# Altium footprint library C8T6核心板和lv8729.PcbLib: 48 footprints (part 2 of 3)
Each footprint in its own frame and in the unit in brackets; x right, y up, seen from the top. Pads: shape width x height; smd on the part's side, far side on the other; paste and mask are expansions set on the pad; w line width, h text height; cw(c..) or ccw(c..) is an arc to the next point about the centre after c.
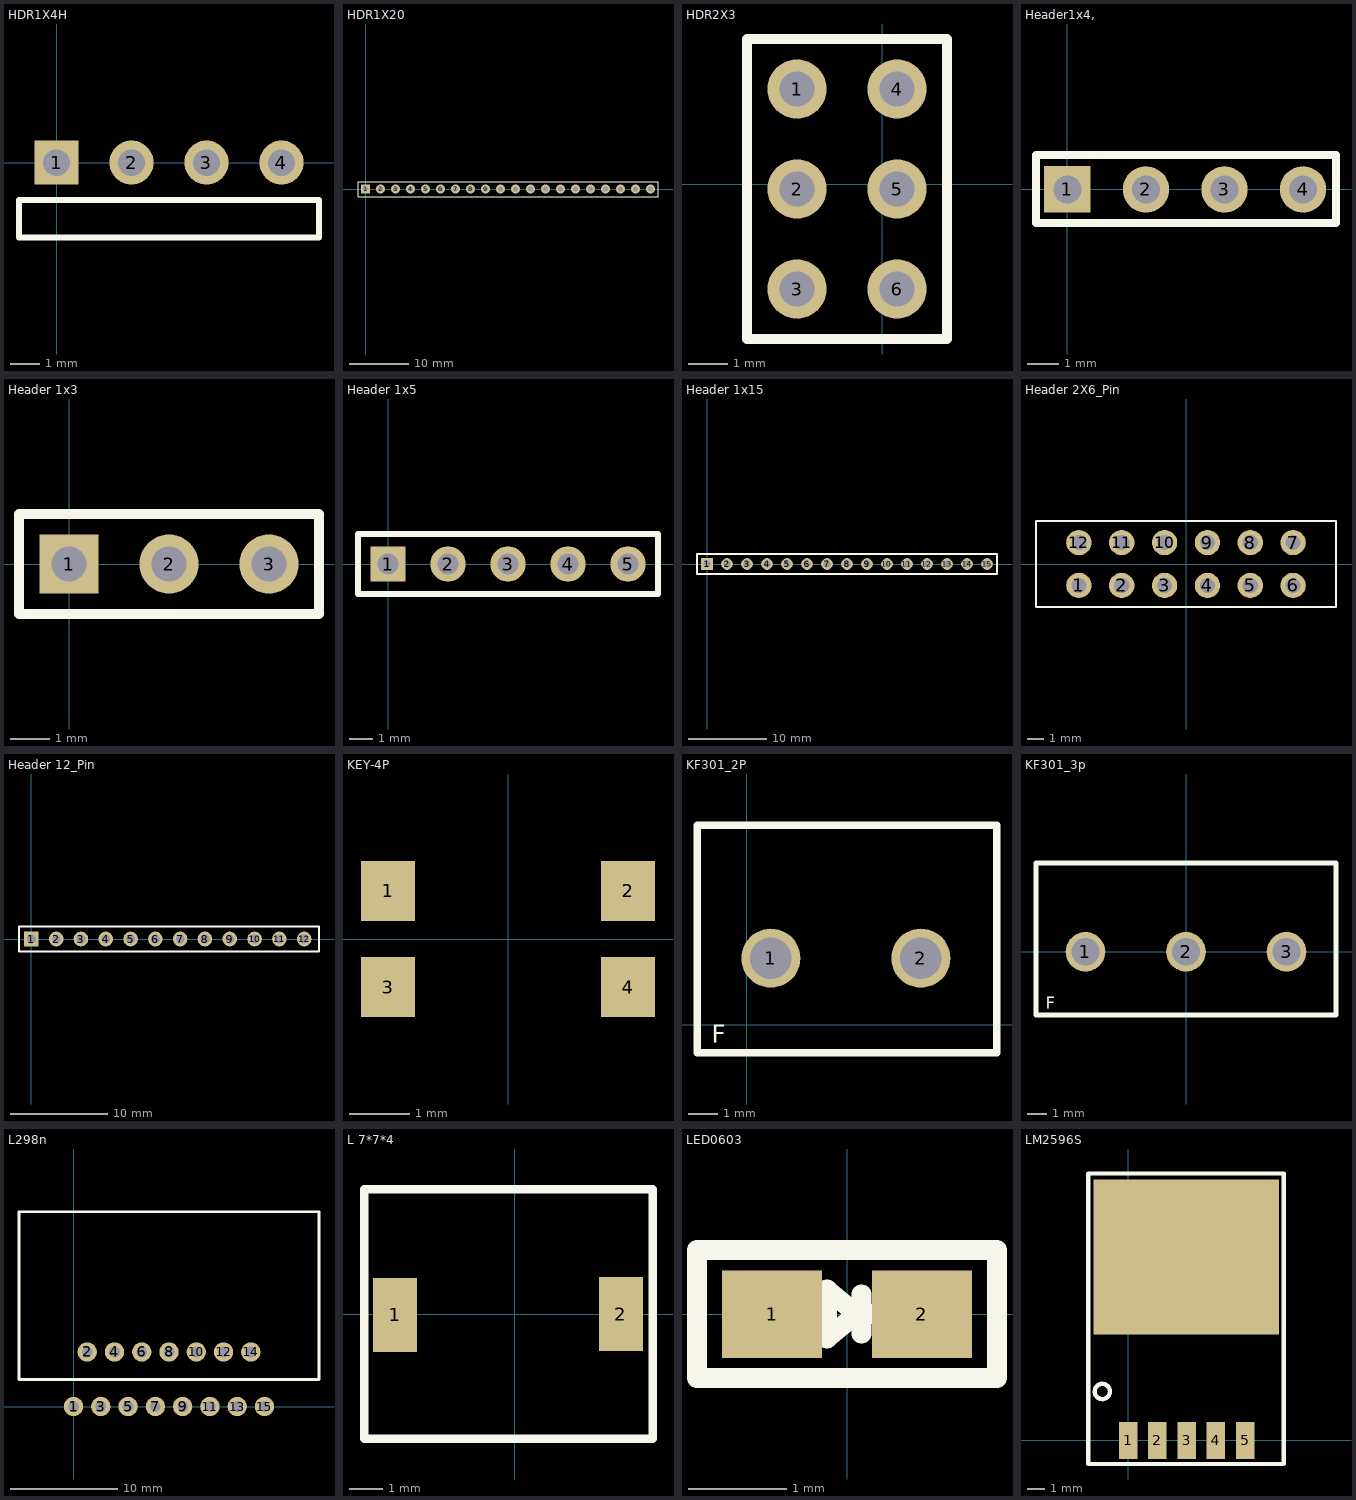
[diagram p1: the footprints below, top view; thin cyan lines are the x and y axes]

## HDR1X4H [mm] "Connector; Header; 4 Position; Right Angle"
pads (4):
  rect 1.5x1.5 hole 0.9: 1(0,0)
  round 1.5 hole 0.9: 2(2.54,0) 3(5.08,0) 4(7.62,0)
Top Overlay:
  lines w0.2: -1.27,-2.54 8.89,-2.54 8.89,-1.27 -1.27,-1.27 -1.27,-2.54

## HDR1X20 [mm] "Connector; Header; 20 Position"
height 1.1
pads (20):
  rect 1.5x1.5 hole 0.9: 1(0,0)
  round 1.5 hole 0.9: 2(2.54,0) 3(5.08,0) 4(7.62,0) 5(10.16,0) 6(12.7,0) 7(15.24,0) 8(17.78,0) 9(20.32,0) 10(22.86,0) 11(25.4,0) 12(27.94,0) 13(30.48,0) 14(33.02,0) 15(35.56,0) 16(38.1,0) 17(40.64,0) 18(43.18,0) 19(45.72,0) 20(48.26,0)
Top Overlay:
  lines w0.2: -1.27,-1.27 -1.27,1.27 0.635,1.27 49.53,1.27 49.53,-1.27 -1.27,-1.27

## HDR2X3 [mm]
pads (6):
  round 1.5 hole 0.9: 1(-2.159,2.413) 2(-2.159,-0.127) 3(-2.159,-2.667) 4(0.381,2.413) 5(0.381,-0.127) 6(0.381,-2.667)
Top Overlay:
  lines w0.254: -3.429,-3.937 -3.429,3.683 1.651,3.683 1.651,-3.937 -3.429,-3.937

## Header1x4, [mm]
pads (4):
  rect 1.5x1.5 hole 0.9: 1(0,0)
  round 1.5 hole 0.9: 2(2.54,0) 3(5.08,0) 4(7.62,0)
Top Overlay:
  lines w0.254: -1.016,-1.092 8.687,-1.092 8.687,1.118 -1.016,1.118 -1.016,-1.092

## Header 1x3 [mm]
pads (3):
  rect 1.5x1.5 hole 0.9: 1(0,0)
  round 1.5 hole 0.9: 2(2.54,0) 3(5.08,0)
Top Overlay:
  lines w0.254: -1.27,1.27 -1.27,0 -1.27,-1.27 0,-1.27 6.325,-1.27 ; -1.245,1.27 0,1.27 1.651,1.27 6.35,1.27 6.35,-1.27

## Header 1x5 [mm]
pads (5):
  rect 1.5x1.5 hole 0.9: 1(0,0)
  round 1.5 hole 0.9: 2(2.54,0) 3(5.08,0) 4(7.62,0) 5(10.16,0)
Top Overlay:
  lines w0.254: -1.27,1.27 -1.27,0 -1.27,-1.27 0,-1.27 11.43,-1.27 11.43,0 11.43,1.27 11.151,1.27 1.651,1.27 0,1.27 -1.245,1.27

## Header 1x15 [mm]
pads (15):
  rect 1.5x1.5 hole 0.9: 1(0,0)
  round 1.5 hole 0.9: 2(2.54,0) 3(5.08,0) 4(7.62,0) 5(10.16,0) 6(12.7,0) 7(15.24,0) 8(17.78,0) 9(20.32,0) 10(22.86,0) 11(25.4,0) 12(27.94,0) 13(30.48,0) 14(33.02,0) 15(35.56,0)
Top Overlay:
  lines w0.254: -1.27,-1.27 1.27,-1.27 34.29,-1.27 36.83,-1.27 36.83,1.27 34.29,1.27 1.27,1.27 -1.27,1.27 -1.27,-1.27

## Header 2X6_Pin [mm]
pads (12):
  round 1.5 hole 0.9: 1(-6.35,-1.27) 2(-3.81,-1.27) 3(-1.27,-1.27) 4(1.27,-1.27) 5(3.81,-1.27) 6(6.35,-1.27) 7(6.35,1.27) 8(3.81,1.27) 9(1.27,1.27) 10(-1.27,1.27) 11(-3.81,1.27) 12(-6.35,1.27)
Top Overlay:
  lines w0.127: -8.89,-2.54 -8.89,-1.27 -8.89,1.27 -8.89,2.54 -1.905,2.54 3.048,2.54 8.89,2.54 8.89,1.27 8.89,-2.54 1.905,-2.54 -3.048,-2.54 -8.89,-2.54

## Header 12_Pin [mm]
pads (12):
  rect 1.5x1.5 hole 0.9: 1(0,0)
  round 1.5 hole 0.9: 2(2.54,0) 3(5.08,0) 4(7.62,0) 5(10.16,0) 6(12.7,0) 7(15.24,0) 8(17.78,0) 9(20.32,0) 10(22.86,0) 11(25.4,0) 12(27.94,0)
Top Overlay:
  lines w0.2: -1.27,-1.27 -1.27,1.27 0.635,1.27 29.464,1.27 29.464,-1.27 -1.27,-1.27

## KEY-4P [mm]
height 1.1
pads (4):
  rect 0.9x1 smd: 1(-2,0.8) 2(2,0.8) 3(-2,-0.8) 4(2,-0.8)

## KF301_2P [mm]
pads (2):
  round 2 hole 1.4: 1(0.824,2.26) 2(5.904,2.26)
Top Overlay:
  lines w0.254: -1.676,-0.94 -1.676,-0.305 -1.676,6.76 0.824,6.76 8.484,6.76 8.484,0.508 8.484,-0.94 0.824,-0.94 -1.676,-0.94
  text "F" at -1.183,-0.61 h0.61

## KF301_3p [mm]
pads (3):
  round 2 hole 1.4: 1(-5.08,0) 2(0,0) 3(5.08,0)
Top Overlay:
  lines w0.254: -7.58,-3.2 -5.08,-3.2 5.08,-3.2 7.58,-3.2 7.58,-1.753 7.58,4.5 5.08,4.5 -5.08,4.5 -7.58,4.5 -7.58,-2.565 -7.58,-3.2
  text "F" at -7.087,-2.87 h0.61

## L298n [mm] "Multiwatt15V"
pads (15):
  round 1.8 hole 1: 1(0,0) 2(1.27,5.08) 3(2.54,0) 4(3.81,5.08) 5(5.08,0) 6(6.35,5.08) 7(7.62,0) 8(8.89,5.08) 9(10.16,0) 10(11.43,5.08) 11(12.7,0) 12(13.97,5.08) 13(15.24,0) 14(16.51,5.08) 15(17.78,0)
Top Overlay:
  lines w0.254: -5.08,2.515 -5.08,7.645 -5.08,10.16 -5.08,18.13 7.62,18.13 22.86,18.13 22.86,2.515 -5.08,2.515

## L 7*7*4 [mm] "CDRH74R"
pads (2):
  rect 1.3x2.2 smd: 1(-3.556,-0.025) 2(3.15,0)
Top Overlay:
  lines w0.254: -4.47,-3.7 -4.47,3.073 -4.47,3.7 -4.089,3.7 -3.15,3.7 3.15,3.7 4.089,3.7 4.089,-2.667 4.089,-3.7 -3.15,-3.7 -4.089,-3.7 -4.47,-3.7

## LED0603 [mil]
height 68.11
pads (2):
  rect 40x35 smd: 1(-29.92,0) 2(29.92,0)
Top Overlay:
  lines w7.87: -15.87,0 -8,0 ; 5.78,-7.87 5.78,7.87 ; 11.69,0 3.81,0 ; 3.81,0 -8,-9.84 -8,9.84 3.81,0 ; -60,-25.59 60,-25.59 60,25.59 -60,25.59 -60,-25.59

## LM2596S [mm] "贴片型"
pads (6):
  rect 1.07x2.16 smd: 1(0,0) 2(1.7,0) 3(3.4,0) 4(5.1,0) 5(6.8,0)
  rect 10.8x9 smd: ""(3.378,10.67)
Top Overlay:
  circle w0.254: c-1.499,2.845 r0.444
  lines w0.254: -2.311,-1.372 9.042,-1.372 9.042,15.519 -2.311,15.519 -2.311,-1.372